# EAGLE library part LCD_4BIT (library my_library)
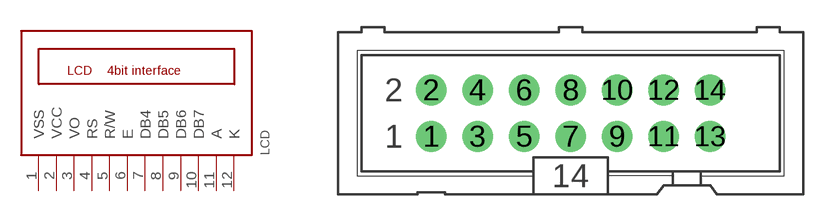
[diagram p6: symbol with the pads of ML14; footprint ML14]

Designator prefix LCD

## LCD_4BITML14  [ML14]
1  VSS  pwr
2  VCC  pwr
3  VO  in
4  RS  in
5  R/W  in
6  E  in
7  DB4
8  DB5
9  DB6
10  DB7
11  A
12  K

## Footprint ML14 (pad centres in mm)
HARTING
drill 0.914 pad 1.676 round: 1 -7.62,-1.27; 2 -7.62,1.27; 3 -5.08,-1.27; 4 -5.08,1.27; 5 -2.54,-1.27; 6 -2.54,1.27; 7 0,-1.27; 8 0,1.27; 9 2.54,-1.27; 10 2.54,1.27; 11 5.08,-1.27; 12 5.08,1.27; 13 7.62,-1.27; 14 7.62,1.27